# Altium integrated library TOP250R.IntLib: 1 symbol
Pins are listed as number, name and electrical type; pins without a type are passive.

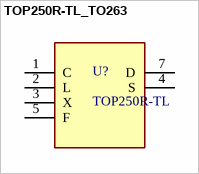
[diagram p0: symbol TOP250R-TL_TO263]

## TOP250R-TL_TO263
designator U?, comment TOP250R-TL
Converter Offline Flyback Topology 66kHz ~ 132kHz TO-263-7C; MF: Power Integrations; Value: *; SnapEDA_Link: https://www.snapeda.com/parts/TOP250YN/Power%20Integrations/view-part/325544/?ref=snap; Price: None; Availability: Unavailable; Package: TO-263-7C; MP: TOP250R
pins: 1 C, 2 L, 3 X, 4 S, 5 F, 7 D